# EAGLE library part JTAG_PROG (library ELL-i-Connectors)
JTAG 10-pin ICSP Header This is an ARM / Keil compatible 10-pin 1.27 mm pitch In Circuit Serial Programming (ICSP) JTAG header. Keil Connectors <http://www.keil.com/support/man/docs/ulink2/ulink2_hw_connectors.htm>
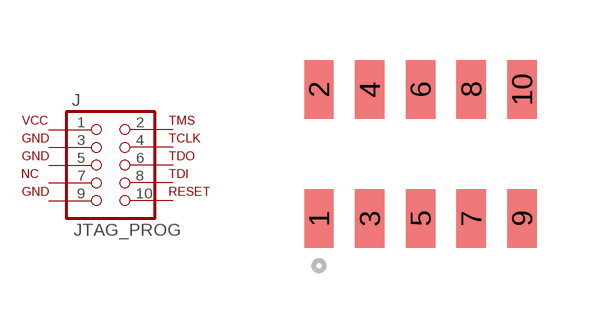
[diagram p12: symbol with the pads of CLP-105-02-X-D; footprint CLP-105-02-X-D]

Designator prefix J

## JTAG_PROG  [CLP-105-02-X-D]
1  1  pwr
2  2
3  3  pwr
4  4
5  5  pwr
6  6
7  7
8  8
9  9  pwr
10  10

## Footprint CLP-105-02-X-D (pad centres in mm)
Samtec CLP-105-02 10-pin .050" Dual Wipe Socket Strip SMT low profile dual wipe header, 1.27 mm pitch. Product page <http://www.samtec.com/technical-specifications/default.aspx?SeriesMaster=CLP>
smd 0.737 x 1.473: 1 -2.54,-1.613; 2 -2.54,1.613; 3 -1.27,-1.613; 4 -1.27,1.613; 5 0,-1.613; 6 0,1.613; 7 1.27,-1.613; 8 1.27,1.613; 9 2.54,-1.613; 10 2.54,1.613